# Altium schematic symbol library jtag-isolator.SchLib: 9 symbols
Pins are listed as number, name and electrical type; pins without a type are passive.

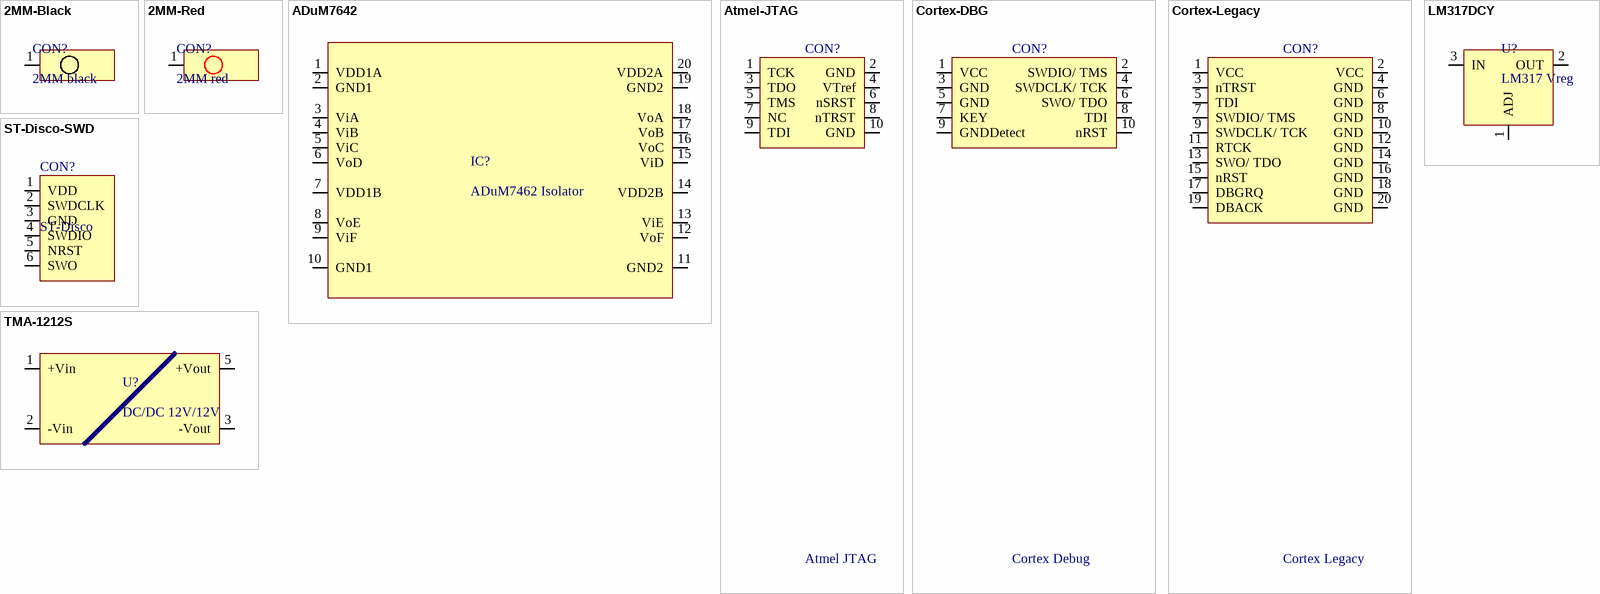
[diagram p0: symbols 2MM-Black to TMA-1212S]

## 2MM-Black
designator CON?, comment 2MM black
2MM test connector; MID: Hirschmann; PID: 930224100
footprint MPB1-Black
pins: 1

## 2MM-Red
designator CON?, comment 2MM red
2MM test connector; MID: Hirschmann; PID: 930224101
footprint MPB1-Red
pins: 1

## ADuM7642
designator IC?, comment ADuM7462 Isolator
1 kV RMS Six-Channel Digital Isolators; MID: Analog Devices; PID: ADuM7462ARQZ/CRQZ
footprint ADUM7462-QSOP20 (SOP, 20-Leads, Body 8,66x3,91mm, Pitch 0,64mm, IPC Low Density)
pins: 1 VDD1A, 2 GND1, 3 ViA, 4 ViB, 5 ViC, 6 VoD, 7 VDD1B, 8 VoE, 9 ViF, 10 GND1, 11 GND2, 12 VoF, 13 ViE, 14 VDD2B, 15 ViD, 16 VoC, 17 VoB, 18 VoA, 19 GND2, 20 VDD2A

## Atmel-JTAG
designator CON?, comment Atmel JTAG
Atmel JTAG Connector
footprint Atmel-JTAG
pins: 1 TCK, 2 GND, 3 TDO, 4 VTref, 5 TMS, 6 nSRST, 7 NC, 8 nTRST, 9 TDI, 10 GND

## Cortex-DBG
designator CON?, comment Cortex Debug
MID: Samtec; PID: FTSH-105-01-L-DV-K
footprint cortex-dbg
pins: 1 VCC, 2 SWDIO/ TMS, 3 GND, 4 SWDCLK/ TCK, 5 GND, 6 SWO/ TDO, 7 KEY, 8 TDI, 9 GNDDetect, 10 nRST

## Cortex-Legacy
designator CON?, comment Cortex Legacy
footprint Cortex-Legacy
pins: 1 VCC, 2 VCC, 3 nTRST, 4 GND, 5 TDI, 6 GND, 7 SWDIO/ TMS, 8 GND, 9 SWDCLK/ TCK, 10 GND, 11 RTCK, 12 GND, 13 SWO/ TDO, 14 GND, 15 nRST, 16 GND, 17 DBGRQ, 18 GND, 19 DBACK, 20 GND

## LM317DCY
designator U?, comment LM317 Vreg
Linear Voltage Regulator, Adjustable, 40V primary input, 1.25V to 37V/1.5A/1 Output, SOT-223-4; MID: Texas Instruments; PID: LM317DCY
footprint LM317-SOT223 (SOT223, 4-Leads, Body 6,50x7,00mm (avg), Pitch 2,30mm, IPC Low Density)
pins: 1 ADJ, 2 OUT, 3 IN

## ST-Disco-SWD
designator CON?, comment ST-Disco
STM Discovery Board JTAG Connector
footprint ST-Disco
pins: 1 VDD, 2 SWDCLK, 3 GND, 4 SWDIO, 5 NRST, 6 SWO

## TMA-1212S
designator U?, comment DC/DC 12V/12V
Isolierter DC/DC-Wandler f. PCB-Montage, Fest, 1 Ausgang, 10.8 V, 13.2 V, 1 W, 12 V; MID: Tracopower; PID: TMA 1212S
footprint TMA-1212S
pins: 1 +Vin, 2 -Vin, 3 -Vout, 5 +Vout